# EAGLE library part ACPL-227-50BE (library ACPL-227-50BE)
ACPL-227-50BE Broadcom, Optocoupler DC Input Phototransistor Output, 8-Pin SOIC, Surface Mount Source: Datasheet <https://docs.broadcom.com/docs/AV02-0752EN>
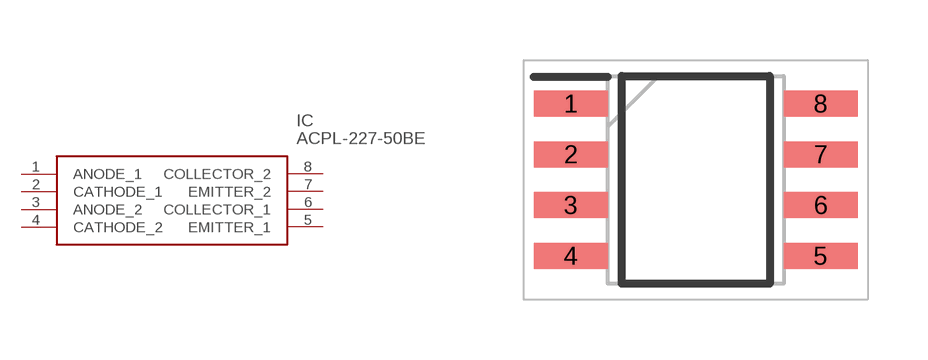
[diagram p0: symbol with the pads of SOIC127P700X220-8N; footprint SOIC127P700X220-8N]

Designator prefix IC

## ACPL-227-50BE (Description: ACPL-227-50BE Broadcom, Optocoupler DC Input Phototransistor Output, 8-Pin SOIC, Surface Mount; Height: 2.2mm; Manufacturer_Name: Avago Technologies; Manufacturer_Part_Number: ACPL-227-50BE; Mouser_Part_Number: 630-ACPL-227-50BE; Mouser_Price-Stock: https://www.mouser.co.uk/ProductDetail/Broadcom-Avago/ACPL-227-50BE?qs=zR1%252BXmOs1xbjxbgospYJ%2FQ%3D%3D)  [SOIC127P700X220-8N]
1  ANODE_1
2  CATHODE_1
3  ANODE_2
4  CATHODE_2
5  EMITTER_1
6  COLLECTOR_1
7  EMITTER_2
8  COLLECTOR_2

## Footprint SOIC127P700X220-8N (pad centres in mm)
ACPL-227
smd 1.85 x 0.65: 1 -3.125,1.905; 2 -3.125,0.635; 3 -3.125,-0.635; 4 -3.125,-1.905; 5 3.125,-1.905; 6 3.125,-0.635; 7 3.125,0.635; 8 3.125,1.905